# Altium footprint library reed_switch.PcbLib: 2 footprints
Each footprint in its own frame and in the unit in brackets; x right, y up, seen from the top. Pads: shape width x height; smd on the part's side, far side on the other; paste and mask are expansions set on the pad; w line width, h text height; cw(c..) or ccw(c..) is an arc to the next point about the centre after c.
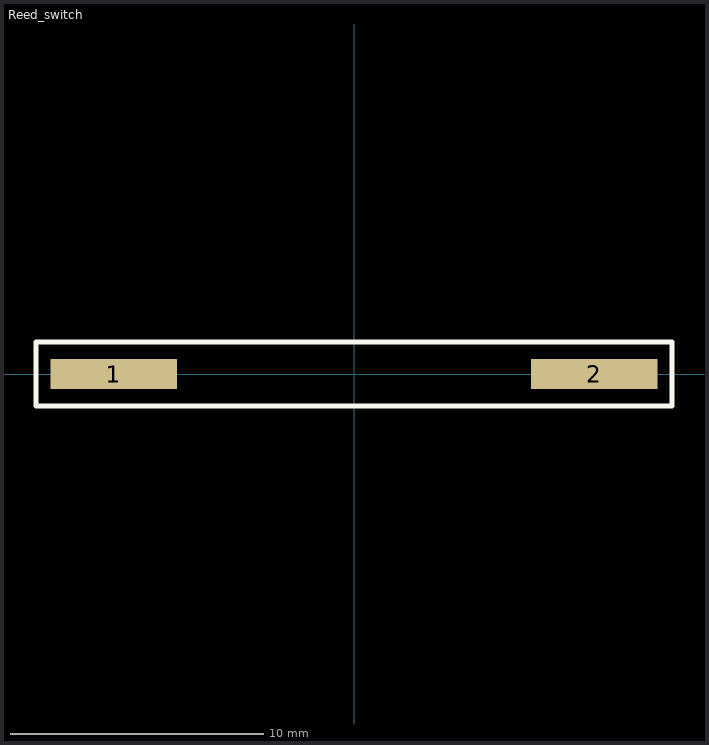
[diagram p0: the footprints below, top view; thin cyan lines are the x and y axes]

## PCBComponent_1 [mm]

## Reed_switch [mm]
pads (2):
  rect 5x1.2 smd: 1(-9.5,0) 2(9.5,0)
Top Overlay:
  lines w0.2: -12.573,-1.27 -12.573,1.27 12.573,1.27 12.573,-1.27 -12.573,-1.27